# EAGLE library part 74HC193 (library 000phys605parts)
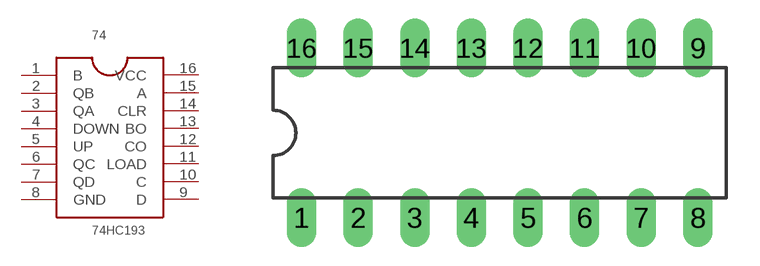
[diagram p0: symbol with the pads of DIL16; footprint DIL16]

Designator prefix 74

## 74HC193  [DIL16]
1  B
2  QB
3  QA
4  DOWN
5  UP
6  QC
7  QD
8  GND  out
9  D
10  C
11  LOAD
12  CO
13  BO
14  CLR
15  A
16  VCC  in

## Footprint DIL16 (pad centres in mm)
Dual In Line Package
drill 0.813 long: 1 -8.89,-3.81; 2 -6.35,-3.81; 3 -3.81,-3.81; 4 -1.27,-3.81; 5 1.27,-3.81; 6 3.81,-3.81; 7 6.35,-3.81; 8 8.89,-3.81; 9 8.89,3.81; 10 6.35,3.81; 11 3.81,3.81; 12 1.27,3.81; 13 -1.27,3.81; 14 -3.81,3.81; 15 -6.35,3.81; 16 -8.89,3.81